# EAGLE library part CONN_10 (library ME433_HW6_lib)
Multi connection point. Often used as Generic Header-pin footprint for 0.1 inch spaced/style header connections On any of the 0.1 inch spaced packages, you can populate with these: Break Away Headers - Straight <https://www.sparkfun.com/products/116> (PRT-00116) Break Away Male Headers - Right Angle <https://www.sparkfun.com/products/553> (PRT-00553) Female Headers <https://www.sparkfun.com/products/115> (PRT-00115) Break Away Headers - Machine Pin <https://www.sparkfun.com/products/117> (PRT-00117) Break Away Female Headers - Swiss Machine Pin <https://www.sparkfun.com/products/743> (PRT-00743) Arduino Stackable Header - 10 Pin <https://www.sparkfun.com/products/11376> (PRT-11376) For SCREWTERMINALS and SPRING TERMINALS visit here: Screw Terimnals on SparkFun.com <https://www.sparkfun.com/search/results?term=Screw+Terminals> (5mm/3.5mm/2.54mm spacing) This device is also useful as a general connection point to wire up your design to another part of your project. Our various solder wires solder well into these plated through hole pads. Hook-Up Wire - Assortment (Stranded, 22 AWG) <https://www.sparkfun.com/products/11375> (PRT-11375) Hook-Up Wire - Assortment (Solid Core, 22 AWG) <https://www.sparkfun.com/products/11367> (PRT-11367) View the entire wire category on our website here <https://www.sparkfun.com/categories/141> Special notes: Molex polarized connector foot print use with SKU : PRT-08231 with associated crimp pins and housings. 1MM SMD Version SKU: PRT-10208 NOTES ON THE VARIANTS LOCK and LOCK_LONGPADS... This footprint was designed to help hold the alignment of a through-hole component (i.e. 6-pin header) while soldering it into place. You may notice that each hole has been shifted either up or down by 0.005 of an inch from it's more standard position (which is a perfectly straight line). This slight alteration caused the pins (the squares in the middle) to touch the edges of the holes. Because they are alternating, it causes a "brace" to hold the component in place. 0.005 has proven to be the perfect amount of "off-center" position when using our standard breakaway headers. Although looks a little odd when you look at the bare footprint, once you have a header in there, the alteration is very hard to notice. Also,if you push a header all the way into place, it is covered up entirely on the bottom side.
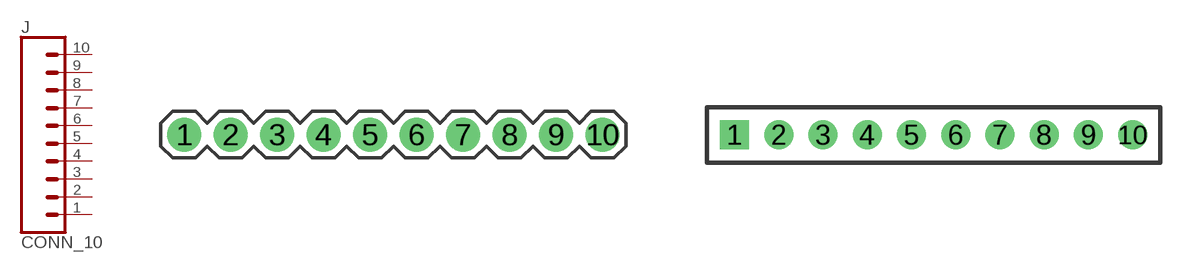
[diagram p4: symbol with the pads of 1X10; footprints 1X10, 1X10-2MM]

Designator prefix J

## CONN_10" (PROD_ID: CONN-11563)  [1X10]
1  1  pas
2  2  pas
3  3  pas
4  4  pas
5  5  pas
6  6  pas
7  7  pas
8  8  pas
9  9  pas
10  10  pas

## CONN_102MM (PROD_ID: CONN-08875; SF_ID: PRT-08272)  [1X10-2MM]
Pads as for 1X10

## CONN_102MMSMD (PROD_ID: CONN-09042; SF_ID: PRT-10030)  [1X10-2MM-SMD]
Pads as for 1X10

## CONN_10LOCK  [1X10_LOCK]
Pads as for 1X10

## CONN_10LOCK_LONGPADS  [1X10_LOCK_LONGPADS]
Pads as for 1X10

## CONN_10SMD_COMBO-FEMALE (PROD_ID: CONN-11219)  [1X10_SMD_COMBINED]
1A  1  pas
1B  1  pas
2A  2  pas
2B  2  pas
3A  3  pas
3B  3  pas
4A  4  pas
4B  4  pas
5A  5  pas
5B  5  pas
6A  6  pas
6B  6  pas
7A  7  pas
7B  7  pas
8A  8  pas
8B  8  pas
9A  9  pas
9B  9  pas
10A  10  pas
10B  10  pas

## CONN_10SMD_MALE (PROD_ID: CONN-11291)  [1X10_SMD_MALE]
Pads as for 1X10

## CONN_10NO_SILK_PTH_FEMALE  [1X10_NO_SILK]
Pads as for 1X10

## CONN_10LOCK_NS  [1X10_LOCK_NS]
Pads as for 1X10

## CONN_101.25MM_SMD  [1X10-1.25MM-SMD]
Pads as for 1X10

## CONN_103.5MM-10 (PROD_ID: CONN-13177)  [SCREWTERMINAL-3.5MM-10]
Pads as for 1X10

## Footprint 1X10 (pad centres in mm)
Plated Through Hole -10 Pin Specifications: Pin count:10 Pin pitch:0.1" Example device(s): CONN_10
drill 1.016 pad 1.88: 1 0,0; 2 2.54,0; 3 5.08,0; 4 7.62,0; 5 10.16,0; 6 12.7,0; 7 15.24,0; 8 17.78,0; 9 20.32,0; 10 22.86,0

## Footprint 1X10-2MM (pad centres in mm)
Plated Through Hole -10 Pin 2mm Specifications: Pin count:10 Pin pitch:2mm Datasheet referenced for footprint <https://www.sparkfun.com/datasheets/Prototyping/XBee-Connector.pdf> Example device(s): CONN_10
drill 0.8 square: 1 0,0
drill 0.8: 2 2,0; 3 4,0; 4 6,0; 5 8,0; 6 10,0; 7 12,0; 8 14,0; 9 16,0; 10 18,0

## Footprint 1X10-2MM-SMD (pad centres in mm)
Plated Through Hole -10 Pin 2mm SMD Specifications: Pin count:10 Pin pitch:2mm Datasheet referenced for footprint <https://www.sparkfun.com/datasheets/Prototyping/Sockets/xbeeheadersmd.pdf> Example device(s): CONN_10
smd 0.85 x 2.1: 1 0,-1.5; 2 2,1.5; 3 4,-1.5; 4 6,1.5; 5 8,-1.5; 6 10,1.5; 7 12,-1.5; 8 14,1.5; 9 16,-1.5; 10 18,1.5

## Footprint 1X10_LOCK (pad centres in mm)
Plated Through Hole -10 Pin Locking Footprint Holes are offset 0.005" to hold pins in place while soldering. Specifications: Pin count:10 Pin pitch:0.1" Example device(s): CONN_10
drill 1.016 pad 1.88: 1 0,0.127; 2 2.54,-0.127; 3 5.08,0.127; 4 7.62,-0.127; 5 10.16,0.127; 6 12.7,-0.127; 7 15.24,0.127; 8 17.78,-0.127; 9 20.32,0.127; 10 22.86,-0.127

## Footprint 1X10_LOCK_LONGPADS (pad centres in mm)
Plated Through Hole -10 Pin Locking Footprint with Long Pads Holes are offset 0.005" to hold pins in place while soldering. Specifications: Pin count:10 Pin pitch:0.1" Example device(s): CONN_10
drill 1.016 long: 1 0,0.127; 2 2.54,-0.127; 3 5.08,0.127; 4 7.62,-0.127; 5 10.16,0.127; 6 12.7,-0.127; 7 15.24,0.127; 8 17.78,-0.127; 9 20.32,0.127; 10 22.86,-0.127

## Footprint 1X10_SMD_COMBINED (pad centres in mm)
SMD -10 Pin Specifications: Pin count:10 Pin pitch:0.1" Datasheet referenced for footprint <http://cdn.sparkfun.com/datasheets/Prototyping/maleSMDheader.pdf> Example device(s): CONN_10
smd 1 x 2: 1A 0,1.65; 1B 0,-1.65; 2A 2.54,1.65; 2B 2.54,-1.65; 3A 5.08,1.65; 3B 5.08,-1.65; 4A 7.62,1.65; 4B 7.62,-1.65; 5A 10.16,1.65; 5B 10.16,-1.65; 6A 12.7,1.65; 6B 12.7,-1.65; 7A 15.24,1.65; 7B 15.24,-1.65; 8A 17.78,1.65; 8B 17.78,-1.65; 9A 20.32,1.65; 9B 20.32,-1.65; 10A 22.86,1.65; 10B 22.86,-1.65

## Footprint 1X10_SMD_MALE (pad centres in mm)
SMD -10 Pin Specifications: Pin count:10 Pin pitch:0.1" Datasheet referenced for footprint <http://cdn.sparkfun.com/datasheets/Prototyping/maleSMDheader.pdf> Example device(s): CONN_10
smd 1.02 x 6: 1 0,0; 2 2.54,0; 3 5.08,0; 4 7.62,0; 5 10.16,0; 6 12.7,0; 7 15.24,0; 8 17.78,0; 9 20.32,0; 10 22.86,0

## Footprint 1X10_NO_SILK (pad centres in mm)
Plated Through Hole -10 Pin No Silk Specifications: Pin count:10 Pin pitch:0.1" Example device(s): CONN_10
drill 1.016 pad 1.88: 1 0,0; 2 2.54,0; 3 5.08,0; 4 7.62,0; 5 10.16,0; 6 12.7,0; 7 15.24,0; 8 17.78,0; 9 20.32,0; 10 22.86,0

## Footprint 1X10_LOCK_NS (pad centres in mm)
Plated Through Hole -10 Pin Locking Footprint - NO SILK Holes are offset 0.005" to hold pins in place while soldering. Specifications: Pin count:10 Pin pitch:0.1" Example device(s): CONN_10
drill 1.016 pad 1.88: 1 0,0.127; 2 2.54,-0.127; 3 5.08,0.127; 4 7.62,-0.127; 5 10.16,0.127; 6 12.7,-0.127; 7 15.24,0.127; 8 17.78,-0.127; 9 20.32,0.127; 10 22.86,-0.127

## Footprint 1X10-1.25MM-SMD (pad centres in mm)
smd 0.8 x 1.3: 1 -5.625,2.75; 2 -4.375,2.75; 3 -3.125,2.75; 4 -1.875,2.75; 5 -0.625,2.75; 6 0.625,2.75; 7 1.875,2.75; 8 3.125,2.75; 9 4.375,2.75; 10 5.625,2.75
smd 2.1 x 3: NC1 -8.175,0; NC2 8.175,0

## Footprint SCREWTERMINAL-3.5MM-10 (pad centres in mm)
drill 1.2 pad 2.032: 1 0,0; 2 3.5,0; 3 7,0; 4 10.5,0; 5 14,0; 6 17.5,0; 7 21,0; 8 24.5,0; 9 28,0; 10 31.5,0